# EAGLE library part IS61C5128AL (library 68komputer)
IS61C5128AL – 512K x 8 SRAM (10ns) Datasheet <https://www.mouser.com/datasheet/2/198/61-64C5128AL-258414.pdf>
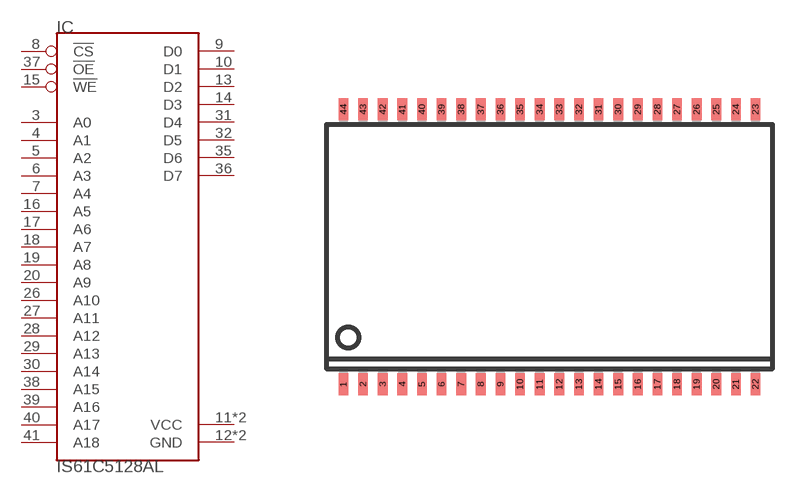
[diagram p40: symbol with the pads of TSOP44-II; footprint TSOP44-II]

Designator prefix IC

## IS61C5128AL (MOUSER: 870-61C5128AL-10TLI; VALUE: IS61C5128AL)  [TSOP44-II]
3  A0  in
4  A1  in
5  A2  in
6  A3  in
7  A4  in
8  !CS  in
9  D0
10  D1
11  VCC  pwr
12  GND  pwr
13  D2
14  D3
15  !WE  in
16  A5  in
17  A6  in
18  A7  in
19  A8  in
20  A9  in
26  A10  in
27  A11  in
28  A12  in
29  A13  in
30  A14  in
31  D4
32  D5
33  VCC  pwr
34  GND  pwr
35  D6
36  D7
37  !OE  in
38  A15  in
39  A16  in
40  A17  in
41  A18  in

## Footprint TSOP44-II (pad centres in mm)
44 lead Plastic Thin Small Outline Type II Source: http://us.st.com/stonline/products/literature/ds/7995.pdf
smd 0.4 x 0.9: 1 -8.4,-5.6; 2 -7.6,-5.6; 3 -6.8,-5.6; 4 -6,-5.6; 5 -5.2,-5.6; 6 -4.4,-5.6; 7 -3.6,-5.6; 8 -2.8,-5.6; 9 -2,-5.6; 10 -1.2,-5.6; 11 -0.4,-5.6; 12 0.4,-5.6; 13 1.2,-5.6; 14 2,-5.6; 15 2.8,-5.6; 16 3.6,-5.6; 17 4.4,-5.6; 18 5.2,-5.6; 19 6,-5.6; 20 6.8,-5.6; 21 7.6,-5.6; 22 8.4,-5.6; 23 8.4,5.6; 24 7.6,5.6; 25 6.8,5.6; 26 6,5.6; 27 5.2,5.6; 28 4.4,5.6; 29 3.6,5.6; 30 2.8,5.6; 31 2,5.6; 32 1.2,5.6; 33 0.4,5.6; 34 -0.4,5.6; 35 -1.2,5.6; 36 -2,5.6; 37 -2.8,5.6; 38 -3.6,5.6; 39 -4.4,5.6; 40 -5.2,5.6; 41 -6,5.6; 42 -6.8,5.6; 43 -7.6,5.6; 44 -8.4,5.6